# Altium footprint library Digital IC.PcbLib: 25 footprints (part 1 of 2)
Each footprint in its own frame and in the unit in brackets; x right, y up, seen from the top. Pads: shape width x height; smd on the part's side, far side on the other; paste and mask are expansions set on the pad; w line width, h text height; cw(c..) or ccw(c..) is an arc to the next point about the centre after c.
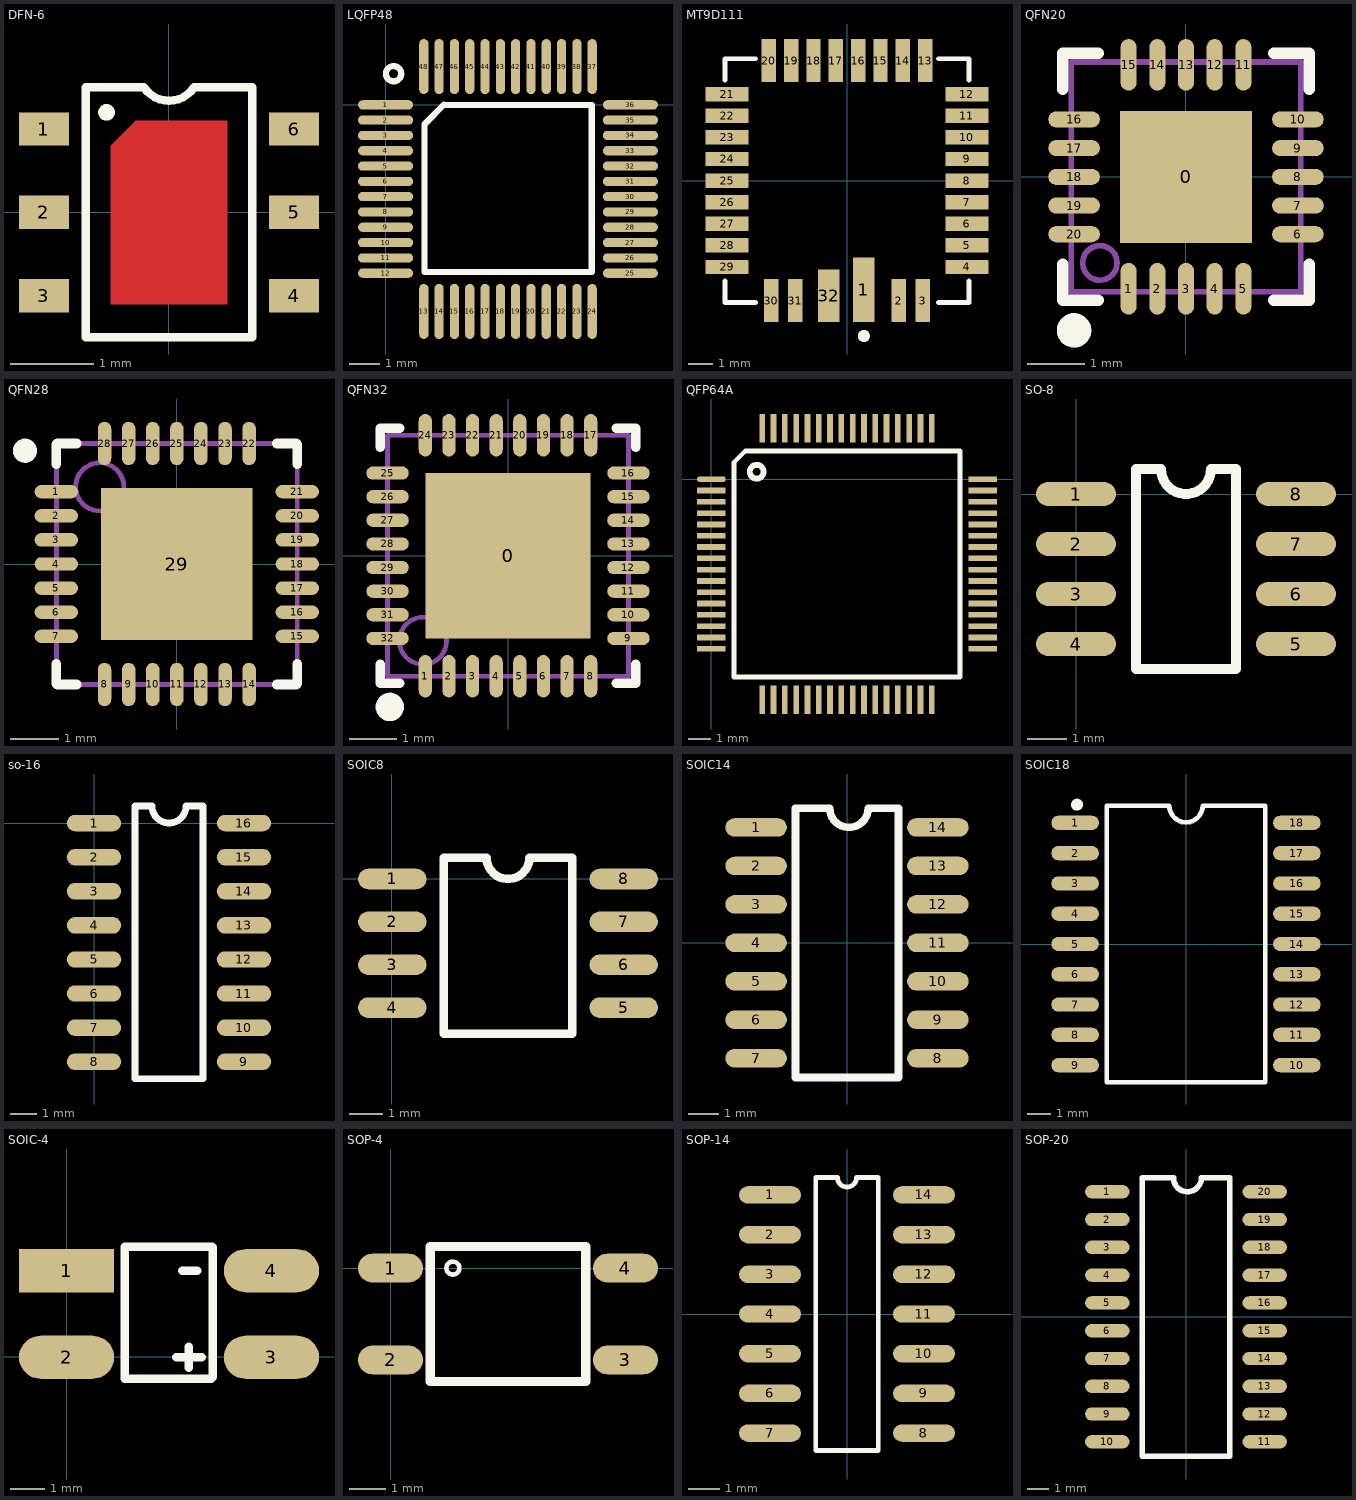
[diagram p0: the footprints below, top view; thin cyan lines are the x and y axes]

## DFN-6 [mm]
pads (6):
  rect 0.6x0.4 smd: 1(-1.5,1) 2(-1.5,0) 3(-1.5,-1) 4(1.5,-1) 5(1.5,0) 6(1.5,1)
Top Layer:
  region: 0.7,1.1 0.7,-1.1 -0.7,-1.1 -0.7,0.8 -0.4,1.1
Top Overlay:
  circle w0.1: c-0.75,1.2 r0.05
  lines w0.1: -1,-1.5 -1,1.5 -0.3,1.5 ccw(c0,1.7) 0.3,1.5 1,1.5 1,-1.5 -1,-1.5
Top Solder:
  region: 0.8,1.2 0.8,-1.2 -0.8,-1.2 -0.8,0.9 -0.5,1.2

## LQFP48 [mm]
pads (48):
  oval 1.8x0.3 smd: 1(-0.003,0) 2(-0.003,-0.5) 3(-0.003,-1) 4(-0.003,-1.5) 5(-0.003,-2) 6(-0.003,-2.5) 7(-0.003,-3) 8(-0.003,-3.5) 9(-0.003,-4) 10(-0.003,-4.5) 11(-0.003,-5) 12(-0.003,-5.5) 25(7.997,-5.5) 26(7.997,-5) 27(7.997,-4.5) 28(7.997,-4) 29(7.997,-3.5) 30(7.997,-3) 31(7.997,-2.5) 32(7.997,-2) 33(7.997,-1.5) 34(7.997,-1) 35(7.997,-0.5) 36(7.997,0)
  oval 0.3x1.8 smd: 13(1.247,-6.75) 14(1.747,-6.75) 15(2.247,-6.75) 16(2.747,-6.75) 17(3.247,-6.75) 18(3.747,-6.75) 19(4.247,-6.75) 20(4.747,-6.75) 21(5.247,-6.75) 22(5.747,-6.75) 23(6.247,-6.75) 24(6.747,-6.75) 37(6.747,1.25) 38(6.247,1.25) 39(5.747,1.25) 40(5.247,1.25) 41(4.747,1.25) 42(4.247,1.25) 43(3.747,1.25) 44(3.247,1.25) 45(2.747,1.25) 46(2.247,1.25) 47(1.747,1.25) 48(1.247,1.25)
Top Overlay:
  circle w0.2: c0.258,1.016 r0.25
  lines w0.2: 1.27,-0.635 1.27,-5.461 6.731,-5.461 6.731,0 1.905,0
  lines w0.203: 1.27,-0.635 1.905,0

## MT9D111 [mm] "MT9D111"
pads (32):
  rect 0.9x2.7 smd: 1(0.7,-4.55)
  rect 0.6x1.8 smd: 2(2.15,-5) 3(3.15,-5) 13(3.255,5) 14(2.325,5) 15(1.395,5) 16(0.465,5) 17(-0.465,5) 18(-1.395,5) 19(-2.325,5) 20(-3.255,5) 30(-3.15,-5) 31(-2.15,-5)
  rect 1.8x0.6 smd: 4(5,-3.6) 5(5,-2.7) 6(5,-1.8) 7(5,-0.9) 8(5,0) 9(5,0.9) 10(5,1.8) 11(5,2.7) 12(5,3.6) 21(-5,3.6) 22(-5,2.7) 23(-5,1.8) 24(-5,0.9) 25(-5,0) 26(-5,-0.9) 27(-5,-1.8) 28(-5,-2.7) 29(-5,-3.6)
  rect 0.9x2.2 smd: 32(-0.762,-4.8)
Top Overlay:
  circle w0.25: c0.7,-6.477 r0.125
  lines w0.2: -5.08,-4.191 -5.08,-5.08 -3.81,-5.08 ; -5.08,4.191 -5.08,5.08 -3.81,5.08 ; 3.81,-5.08 5.08,-5.08 5.08,-4.191 ; 3.81,5.08 5.08,5.08 5.08,4.191

## QFN20 [mm] "LC-QFN-20_4x4x05P"
pads (21):
  rect 2.3x2.3 smd mask+0.051: 0(0,0)
  oval 0.28x0.9 smd mask+0.051: 1(-1,-1.95) 2(-0.5,-1.95) 3(0,-1.95) 4(0.5,-1.95) 5(1,-1.95) 11(1,1.95) 12(0.5,1.95) 13(0,1.95) 14(-0.5,1.95) 15(-1,1.95)
  oval 0.9x0.28 smd mask+0.051: 6(1.95,-1) 7(1.95,-0.5) 8(1.95,0) 9(1.95,0.5) 10(1.95,1) 16(-1.95,1) 17(-1.95,0.5) 18(-1.95,0) 19(-1.95,-0.5) 20(-1.95,-1)
Top Overlay:
  circle w0.3: c-1.95,-2.675 r0.15
  lines w0.2: -2.15,-1.525 -2.15,-2.15 -1.525,-2.15 ; -2.15,1.525 -2.15,2.15 -1.525,2.15 ; 1.525,-2.15 2.15,-2.15 2.15,-1.525 ; 1.525,2.15 2.15,2.15 2.15,1.525
Mechanical 13:
  circle w0.1: c-1.5,-1.5 r0.3
  lines w0.1: -2,-2 2,-2 2,2 -2,2 -2,-2

## QFN28 [mm] "PQFN, 28-Leads, Body 5.00x5.00mm, Pitch 0.50mm, Thermal Pad 3.24x3.24mm, IPC Medium Density"
height 0.9
pads (29):
  oval 0.9x0.28 smd mask+0.06: 1(-2.5,1.5) 2(-2.5,1) 3(-2.5,0.5) 4(-2.5,0) 5(-2.5,-0.5) 6(-2.5,-1) 7(-2.5,-1.5) 15(2.5,-1.5) 16(2.5,-1) 17(2.5,-0.5) 18(2.5,0) 19(2.5,0.5) 20(2.5,1) 21(2.5,1.5)
  oval 0.28x0.9 smd mask+0.06: 8(-1.5,-2.5) 9(-1,-2.5) 10(-0.5,-2.5) 11(0,-2.5) 12(0.5,-2.5) 13(1,-2.5) 14(1.5,-2.5) 22(1.5,2.5) 23(1,2.5) 24(0.5,2.5) 25(0,2.5) 26(-0.5,2.5) 27(-1,2.5) 28(-1.5,2.5)
  rect 3.15x3.15 smd: 29(0,0)
Top Overlay:
  circle w0.25: c-3.15,2.35 r0.125
  lines w0.2: -2.5,-2.075 -2.5,-2.48 -2.48,-2.5 -2.075,-2.5 ; -2.5,2.075 -2.5,2.48 -2.48,2.5 -2.075,2.5 ; 2.075,-2.5 2.48,-2.5 2.5,-2.48 2.5,-2.075 ; 2.075,2.5 2.48,2.5 2.5,2.48 2.5,2.075
Mechanical 13:
  circle w0.1: c-1.6,1.6 r0.5
  lines w0.1: -2.5,-2.48 -2.5,2.48 -2.48,2.5 2.48,2.5 2.5,2.48 2.5,-2.48 2.48,-2.5 -2.48,-2.5 -2.5,-2.48
Mechanical 15:
  lines w0.1: -0.5,0 0.5,0 ; 0,-0.5 0,0.5
3D body: height 0.9, standoff 0.08, extent -2.5,-2.5 2.5,2.5

## QFN32 [mm] "LC-QFN-32_5x5x05P"
pads (33):
  rect 3.5x3.5 smd paste-1.75 mask+0.051: 0(0,0)
  oval 0.28x0.9 smd mask+0.06: 1(-1.75,-2.55) 2(-1.25,-2.55) 3(-0.75,-2.55) 4(-0.25,-2.55) 5(0.25,-2.55) 6(0.75,-2.55) 7(1.25,-2.55) 8(1.75,-2.55) 17(1.75,2.55) 18(1.25,2.55) 19(0.75,2.55) 20(0.25,2.55) 21(-0.25,2.55) 22(-0.75,2.55) 23(-1.25,2.55) 24(-1.75,2.55)
  oval 0.9x0.28 smd mask+0.06: 9(2.55,-1.75) 10(2.55,-1.25) 11(2.55,-0.75) 12(2.55,-0.25) 13(2.55,0.25) 14(2.55,0.75) 15(2.55,1.25) 16(2.55,1.75) 25(-2.55,1.75) 26(-2.55,1.25) 27(-2.55,0.75) 28(-2.55,0.25) 29(-2.55,-0.25) 30(-2.55,-0.75) 31(-2.55,-1.25) 32(-2.55,-1.75)
Top Overlay:
  circle w0.3: c-2.5,-3.2 r0.15
  lines w0.2: -2.7,-2.295 -2.7,-2.7 -2.295,-2.7 ; -2.7,2.295 -2.7,2.7 -2.295,2.7 ; 2.295,-2.7 2.7,-2.7 2.7,-2.295 ; 2.295,2.7 2.7,2.7 2.7,2.295
Top Paste:
  rectangle: 0.55,0.55 1.05,1.05
  rectangle: -0.25,0.55 0.25,1.05
  rectangle: -1.05,0.55 -0.55,1.05
  rectangle: -1.05,-0.25 -0.55,0.25
  rectangle: -1.05,-1.05 -0.55,-0.55
  rectangle: 0.55,-1.05 1.05,-0.55
  rectangle: -0.25,-1.05 0.25,-0.55
  rectangle: 0.55,-0.25 1.05,0.25
  rectangle: -0.25,-0.25 0.25,0.25
Mechanical 13:
  circle w0.1: c-1.8,-1.8 r0.5
  lines w0.1: -2.55,-2.55 2.55,-2.55 2.55,2.55 -2.55,2.55 -2.55,-2.55

## QFP64A [mil]
pads (64):
  oval 50x10 smd: 1(0.33,0.09)
  rect 50x10 smd: 2(0.33,-19.6) 3(0.33,-39.28) 4(0.33,-58.97) 5(0.33,-78.65) 6(0.33,-98.34) 7(0.33,-118.02) 8(0.33,-137.71) 9(0.33,-157.39) 10(0.33,-177.08) 11(0.33,-196.76) 12(0.33,-216.45) 13(0.33,-236.13) 14(0.33,-255.82) 15(0.33,-275.5) 16(0.33,-295.19) 33(472.77,-295.19) 34(472.77,-275.5) 35(472.77,-255.81) 36(472.77,-236.13) 37(472.77,-216.44) 38(472.77,-196.76) 39(472.77,-177.07) 40(472.77,-157.39) 41(472.77,-137.71) 42(472.77,-118.02) 43(472.77,-98.34) 44(472.77,-78.65) 45(472.77,-58.97) 46(472.77,-39.28) 47(472.77,-19.6) 48(472.77,0.09)
  rect 10x50 smd: 17(88.91,-383.77) 18(108.6,-383.77) 19(128.28,-383.77) 20(147.97,-383.77) 21(167.65,-383.77) 22(187.34,-383.77) 23(207.02,-383.77) 24(226.71,-383.77) 25(246.39,-383.77) 26(266.08,-383.77) 27(285.76,-383.77) 28(305.45,-383.77) 29(325.13,-383.77) 30(344.82,-383.77) 31(364.5,-383.77) 32(384.19,-383.77) 49(384.19,88.67) 50(364.5,88.67) 51(344.82,88.67) 52(325.13,88.67) 53(305.45,88.67) 54(285.76,88.67) 55(266.08,88.67) 56(246.39,88.67) 57(226.71,88.67) 58(207.02,88.67) 59(187.34,88.67) 60(167.65,88.67) 61(147.97,88.67) 62(128.28,88.67) 63(108.6,88.67) 64(88.91,88.67)
Top Overlay:
  circle w10: c79.29,13.09 r12.04
  lines w8: 39.7,-344.4 39.7,29.62 59.38,49.3 433.4,49.3 433.4,-344.4 39.7,-344.4

## SO-8 [mil]
pads (8):
  oval 80x24 smd: 1(0,0) 2(0,-50) 3(0,-100) 4(0,-150) 5(220,-150) 6(220,-100) 7(220,-50) 8(220,0)
Top Overlay:
  lines w10: 60,-175 160,-175 160,25 135,25 cw(c110,25) 85,25 60,25 60,-175

## so-16 [mil]
height 27.56
pads (16):
  oval 80x24 smd: 1(0,0) 2(0,-50) 3(0,-100) 4(0,-150) 5(0,-200) 6(0,-250) 7(0,-300) 8(0,-350) 9(220,-350) 10(220,-300) 11(220,-250) 12(220,-200) 13(220,-150) 14(220,-100) 15(220,-50) 16(220,0)
Top Overlay:
  lines w10: 60,-375 160,-375 160,25 135,25 cw(c110,25) 85,25 60,25 60,-375

## SOIC8 [mil]
pads (8):
  oval 80x24 smd: 1(0.45,-0.09) 2(0.45,-50.09) 3(0.45,-100.09) 4(0.45,-150.09) 5(270.45,-150.09) 6(270.45,-100.09) 7(270.45,-50.09) 8(270.45,-0.09)
Top Overlay:
  lines w10: 60.45,-180.57 210.45,-180.57 210.45,24.91 160.45,24.91 cw(c135.45,24.91) 110.45,24.91 60.45,24.91 60.45,-180.57

## SOIC14 [mil]
height 27.56
pads (14):
  oval 80x24 smd: 1(-118.11,150) 2(-118.11,100) 3(-118.11,50) 4(-118.11,0) 5(-118.11,-50) 6(-118.11,-100) 7(-118.11,-150) 8(118.11,-150) 9(118.11,-100) 10(118.11,-50) 11(118.11,0) 12(118.11,50) 13(118.11,100) 14(118.11,150)
Top Overlay:
  lines w10: -66.93,-175 -66.93,175 -22.44,175 ccw(c2.56,175) 27.56,175 66.93,175 66.93,-175 -66.93,-175

## SOIC18 [mm] "75MM"
pads (18):
  oval 2x0.6 smd: 1(-4.65,5.08) 2(-4.65,3.81) 3(-4.65,2.54) 4(-4.65,1.27) 5(-4.65,0) 6(-4.65,-1.27) 7(-4.65,-2.54) 8(-4.65,-3.81) 9(-4.65,-5.08) 10(4.65,-5.08) 11(4.65,-3.81) 12(4.65,-2.54) 13(4.65,-1.27) 14(4.65,0) 15(4.65,1.27) 16(4.65,2.54) 17(4.65,3.81) 18(4.65,5.08)
Top Overlay:
  circle w0.25: c-4.57,5.842 r0.125
  lines w0.2: -3.325,-5.8 3.325,-5.8 3.325,5.8 0.7,5.8 cw(c0,5.8) -0.7,5.8 -3.325,5.8 -3.325,-5.8

## SOIC-4 [mil]
pads (4):
  rect 110x50 smd: 1(-0.02,99.57)
  oval 110x50 smd: 2(-0.02,-0.43) 3(236.64,-0.43) 4(236.64,99.57)
Top Overlay:
  lines w10: 126.98,-0.43 155.98,-0.43 ; 133.98,99.57 150.98,99.57 ; 140.98,-12.43 140.98,11.57 ; 166.98,-25.43 66.98,-25.43 66.98,127.46 168.08,127.46 ; 168.98,-23.43 168.98,126.57

## SOP-4 [mm]
pads (4):
  oval 1.8x0.8 smd: 1(0,0) 2(0,-2.54) 3(6.5,-2.54) 4(6.5,0)
Top Overlay:
  circle w0.127: c1.725,0 r0.18
  lines w0.254: 1.1,-3.14 5.4,-3.14 5.4,0.6 1.1,0.6 1.1,-3.14

## SOP-14 [mil]
pads (14):
  oval 78x22 smd: 1(-97,150) 2(-97,100) 3(-97,50) 4(-97,0) 5(-97,-50) 6(-97,-100) 7(-97,-150) 8(97,-150) 9(97,-100) 10(97,-50) 11(97,0) 12(97,50) 13(97,100) 14(97,150)
Top Overlay:
  lines w5.98: -39.37,-172 -39.37,172 ; 12,172 39.37,172 39.37,-172
  lines w6: -39.37,-172 39.37,-172 ; -39.37,172 -12,172 ccw(c0,172) 12,172
Mechanical 13:
  lines w0: -12,172 ccw(c0,172) 12,172

## SOP-20 [mil]
height 27.56
pads (20):
  oval 80x24 smd: 1(-141.73,225) 2(-141.73,175) 3(-141.73,125) 4(-141.73,75) 5(-141.73,25) 6(-141.73,-25) 7(-141.73,-75) 8(-141.73,-125) 9(-141.73,-175) 10(-141.73,-225) 11(141.73,-225) 12(141.73,-175) 13(141.73,-125) 14(141.73,-75) 15(141.73,-25) 16(141.73,25) 17(141.73,75) 18(141.73,125) 19(141.73,175) 20(141.73,225)
Top Overlay:
  lines w10: -78.74,-251.38 78.74,-251.38 78.74,250 27.56,250 cw(c2.56,250) -22.44,250 -78.74,250 -78.74,-251.38